# EAGLE library part DRV8835 (library moth)
DRV8835 dual package motor driver H bridge
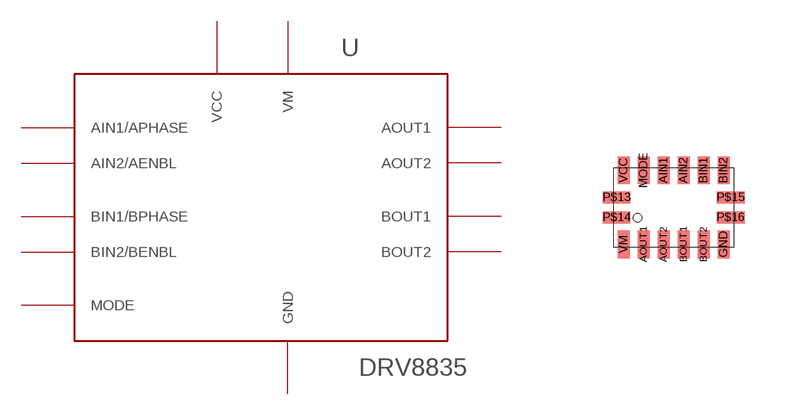
[diagram p1: symbol with the pads of QFN-12-HEATSINK; footprint QFN-12-HEATSINK]

Designator prefix -

## DRV8835  [QFN-12-HEATSINK]
AIN1  AIN1/APHASE
AIN2  AIN2/AENBL
AOUT1  AOUT1
AOUT2  AOUT2
BIN1  BIN1/BPHASE
BIN2  BIN2/BENBL
BOUT1  BOUT1
BOUT2  BOUT2
GND  GND
MODE  MODE
VCC  VCC
VM  VM

## Footprint QFN-12-HEATSINK (pad centres in mm)
smd 0.3 x 0.7: AIN1 -0.25,0.925; AIN2 0.25,0.925; AOUT1 -0.75,-0.925; AOUT2 -0.25,-0.925; BIN1 0.75,0.925; BIN2 1.25,0.925; BOUT1 0.25,-0.925; BOUT2 0.75,-0.925; GND 1.25,-0.925; MODE -0.75,0.925; VCC -1.25,0.925; VM -1.25,-0.925
smd 0.7 x 0.3: P$13 -1.425,0.25; P$14 -1.425,-0.25; P$15 1.425,0.25; P$16 1.425,-0.25